# EAGLE library part INA121 (library EAG)
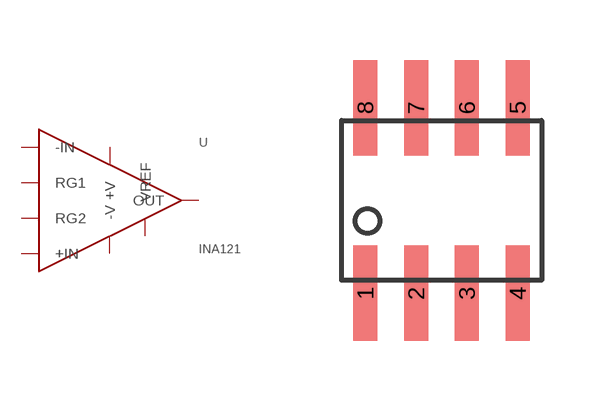
[diagram p0: symbol with the pads of 8-SOIC; footprint 8-SOIC]

Designator prefix -

## INA121  [8-SOIC]
1  RG1
2  -IN
3  +IN
4  -V  pwr
5  VREF
6  OUT
7  +V  pwr
8  RG2

## Footprint 8-SOIC (pad centres in mm)
smd 0.6 x 2.388: 1 -1.905,-2.324; 2 -0.635,-2.324; 3 0.635,-2.324; 4 1.905,-2.324; 5 1.905,2.324; 6 0.635,2.324; 7 -0.635,2.324; 8 -1.905,2.324